# Altium schematic symbol library ULN2803.SCHLIB: 1 symbol
Pins are listed as number, name and electrical type; pins without a type are passive.

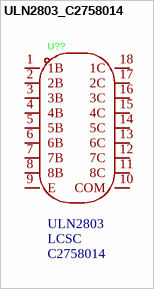
[diagram p0: symbol ULN2803_C2758014]

## ULN2803_C2758014
designator U??, comment Supplier Part: C2758014  Supplier: LCSC  (hidden comment: ULN2803)
Manufacturer: Siproin(上海矽朋); Symbol: ULN2803_C2758014; Add into BOM: yes; number of channels: 8; Collector - Emitter Voltage VCEO: 50V; Current - Collector(Ic): 500mA; Voltage - Input(Max): 30V; Input Current(off): 65uA; Voltage - Forward(Vf): 1.7V; Reverse Leakage Current (Ir): 100uA; Input Capacitiance(Ci): 15pF; Device: ULN2803_C2758014; Supplier Footprint: SOP-18-300mil; LCSC Part Name: 高压大电流达林顿晶体管阵列; JLCPCB Part Class: Extended Part; Datasheet: https://item.szlcsc.com/datasheet/ULN2803/2875179.html; Convert to PCB: yes; Operating Temperature: -20℃~+70℃; Manufacturer Part: ULN2803
footprint SOP-18_L11.6-W7.5-P1.27-LS10.3-BL
3D model SOP-18_L11.5-W7.5-H2.5-LS10.3-P1.27
pins: 1 1B, 2 2B, 3 3B, 4 4B, 5 5B, 6 6B, 7 7B, 8 8B, 9 E, 10 COM, 11 8C, 12 7C, 13 6C, 14 5C, 15 4C, 16 3C, 17 2C, 18 1C